# Altium footprint library Mechanical.PcbLib: 50 footprints (part 1 of 4)
Each footprint in its own frame and in the unit in brackets; x right, y up, seen from the top. Pads: shape width x height; smd on the part's side, far side on the other; paste and mask are expansions set on the pad; w line width, h text height; cw(c..) or ccw(c..) is an arc to the next point about the centre after c.
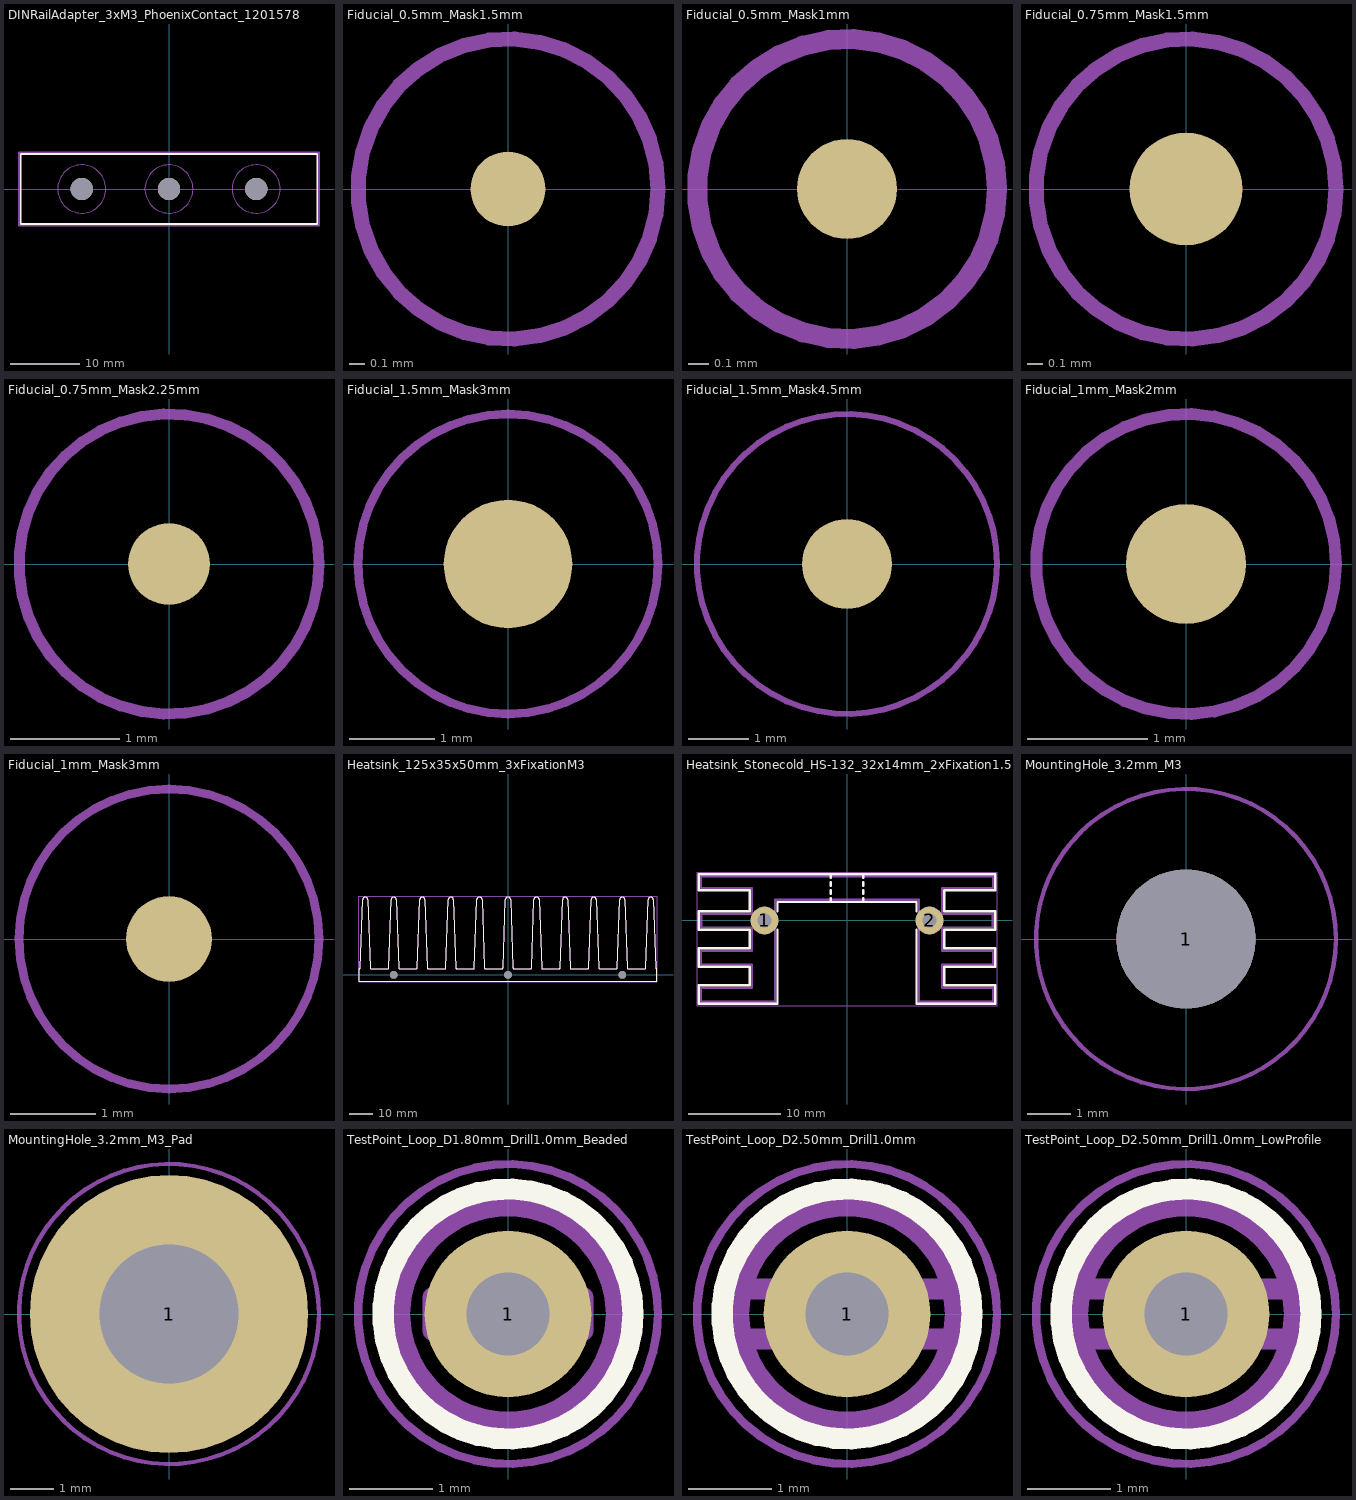
[diagram p0: the footprints below, top view; thin cyan lines are the x and y axes]

## DINRailAdapter_3xM3_PhoenixContact_1201578 [mm] "DIN Rail adapters for M3 screws length: 42.6 mm, width: 10 mm, height: 19 mm, color: gray"
pads (3):
  round 3.2 hole 3.2 unplated mask+0: ""(-12.5,0) ""(0,0) ""(12.5,0)
Top Overlay:
  lines w0.254: -21.25,-5 21.25,-5 21.25,5 -21.25,5 -21.25,-5
Bottom Overlay:
  circle w0.254: c0,0 r2
  circle w0.254: c-12.5,0 r2
  circle w0.254: c12.5,0 r2
Top Courtyard:
  lines w0.254: -21.5,-5.25 21.5,-5.25 21.5,5.25 -21.5,5.25 -21.5,-5.25
Bottom Courtyard:
  circle w0.1: c12.5,0 r3.45
  circle w0.1: c-12.5,0 r3.45
  circle w0.1: c0,0 r3.45
Top Designator:
  text ".Designator" at -7.63,-0.521 h1.52
3D body "UNK_Phoenix_Contact_1201578_eec.STEP": height 19.01, standoff 0.01, extent -21.5,-5 21.184,5

## Fiducial_0.5mm_Mask1.5mm [mm] "Circular Fiducial, 0.5mm bare copper, 1.5mm soldermask opening"
pads (1):
  round 0.5 smd mask+1.5: ""(0,0)
Top Courtyard:
  circle w0.1: c0,0 r1

## Fiducial_0.5mm_Mask1mm [mm] "Circular Fiducial, 0.5mm bare copper, 1mm soldermask opening (Level C)"
pads (1):
  round 0.5 smd mask+1: ""(0,0)
Top Courtyard:
  circle w0.1: c0,0 r0.75

## Fiducial_0.75mm_Mask1.5mm [mm] "Circular Fiducial, 0.75mm bare copper, 1.5mm soldermask opening (Level B)"
pads (1):
  round 0.75 smd mask+1.5: ""(0,0)
Top Courtyard:
  circle w0.1: c0,0 r1

## Fiducial_0.75mm_Mask2.25mm [mm] "Circular Fiducial, 0.75mm bare copper, 2.25mm soldermask opening"
pads (1):
  round 0.75 smd mask+2.25: ""(0,0)
Top Courtyard:
  circle w0.1: c0,0 r1.38

## Fiducial_1.5mm_Mask3mm [mm] "Circular Fiducial, 1.5mm bare copper, 3mm soldermask opening"
pads (1):
  round 1.5 smd mask+3: ""(0,0)
Top Courtyard:
  circle w0.1: c0,0 r1.75

## Fiducial_1.5mm_Mask4.5mm [mm] "Circular Fiducial, 1.5mm bare copper, 4.5mm soldermask opening"
pads (1):
  round 1.5 smd mask+4.5: ""(0,0)
Top Courtyard:
  circle w0.1: c0,0 r2.5

## Fiducial_1mm_Mask2mm [mm] "Circular Fiducial, 1mm bare copper, 2mm soldermask opening (Level A)"
pads (1):
  round 1 smd mask+2: ""(0,0)
Top Courtyard:
  circle w0.1: c0,0 r1.25

## Fiducial_1mm_Mask3mm [mm] "Circular Fiducial, 1mm bare copper, 3mm soldermask opening (recommended)"
pads (1):
  round 1 smd mask+3: ""(0,0)
Top Courtyard:
  circle w0.1: c0,0 r1.75

## Heatsink_125x35x50mm_3xFixationM3 [mm] "Heatsink, 125x35x50mm, 3 fixation holes 3.2mm"
pads (3):
  round 3.2 hole 3.2 unplated mask+0: ""(-48,0) ""(0,0) ""(48,0)
Top Overlay:
  lines w0.254: -62.6,2.57 -62.6,-2.65 62.6,-2.65 62.6,2.57 ; -62.58,2.57 ccw(c-62.565,3.035) -62.1,3.02 -61.09,31.62 ; -61.09,31.58 cw(c-60,31.6) -58.91,31.58 ; -58.91,31.62 -57.9,3.02 ccw(c-57.435,3.035) -57.42,2.57 -50.58,2.57 ccw(c-50.565,3.035) -50.1,3.02 -49.09,31.62 ; -49.09,31.58 cw(c-48,31.6) -46.91,31.58 ; -46.91,31.62 -45.9,3.02 ccw(c-45.435,3.035) -45.42,2.57 -38.58,2.57 ccw(c-38.565,3.035) -38.1,3.02 -37.09,31.62 ; -37.09,31.58 cw(c-36,31.6) -34.91,31.58 ; -34.91,31.62 -33.9,3.02 ccw(c-33.435,3.035) -33.42,2.57 -26.58,2.57 ccw(c-26.565,3.035) -26.1,3.02 -25.09,31.62 ; -25.09,31.58 cw(c-24,31.6) -22.91,31.58 ; -22.91,31.62 -21.9,3.02 ccw(c-21.435,3.035) -21.42,2.57 -14.58,2.57 ccw(c-14.565,3.035) -14.1,3.02 -13.09,31.62 ; -13.09,31.58 cw(c-12,31.6) -10.91,31.58 ; -10.91,31.62 -9.9,3.02 ccw(c-9.435,3.035) -9.42,2.57 -2.58,2.57 ccw(c-2.565,3.035) -2.1,3.02 -1.09,31.62 ; -1.09,31.58 cw(c0,31.6) 1.09,31.58 ; 1.09,31.62 2.1,3.02 ccw(c2.565,3.035) 2.58,2.57 9.42,2.57 ccw(c9.435,3.035) 9.9,3.02 10.91,31.62 ; 10.91,31.58 cw(c12,31.6) 13.09,31.58 ; 13.09,31.62 14.1,3.02 ccw(c14.565,3.035) 14.58,2.57 21.42,2.57 ccw(c21.435,3.035) 21.9,3.02 22.91,31.62 ; 22.91,31.58 cw(c24,31.6) 25.09,31.58 ; 25.09,31.62 26.1,3.02 ccw(c26.565,3.035) 26.58,2.57 33.42,2.57 ccw(c33.435,3.035) 33.9,3.02 34.91,31.62 ; 34.91,31.58 cw(c36,31.6) 37.09,31.58 ; 37.09,31.62 38.1,3.02 ccw(c38.565,3.035) 38.58,2.57 45.42,2.57 ccw(c45.435,3.035) 45.9,3.02 46.91,31.62 ; 46.91,31.58 cw(c48,31.6) 49.09,31.58 ; 49.09,31.62 50.1,3.02 ccw(c50.565,3.035) 50.58,2.57 57.42,2.57 ccw(c57.435,3.035) 57.9,3.02 58.91,31.62 ; 58.91,31.58 cw(c60,31.6) 61.09,31.58 ; 61.09,31.62 62.1,3.02 ccw(c62.565,3.035) 62.58,2.57
Top Assembly:
  lines w0.254: -62.6,2.57 -62.6,-2.65 62.6,-2.65 62.6,2.57 ; -62.58,2.57 ccw(c-62.565,3.035) -62.1,3.02 -61.09,31.62 ; -61.09,31.58 cw(c-60,31.6) -58.91,31.58 ; -58.91,31.62 -57.9,3.02 ccw(c-57.435,3.035) -57.42,2.57 -50.58,2.57 ccw(c-50.565,3.035) -50.1,3.02 -49.09,31.62 ; -49.09,31.58 cw(c-48,31.6) -46.91,31.58 ; -46.91,31.62 -45.9,3.02 ccw(c-45.435,3.035) -45.42,2.57 -38.58,2.57 ccw(c-38.565,3.035) -38.1,3.02 -37.09,31.62 ; -37.09,31.58 cw(c-36,31.6) -34.91,31.58 ; -34.91,31.62 -33.9,3.02 ccw(c-33.435,3.035) -33.42,2.57 -26.58,2.57 ccw(c-26.565,3.035) -26.1,3.02 -25.09,31.62 ; -25.09,31.58 cw(c-24,31.6) -22.91,31.58 ; -22.91,31.62 -21.9,3.02 ccw(c-21.435,3.035) -21.42,2.57 -14.58,2.57 ccw(c-14.565,3.035) -14.1,3.02 -13.09,31.62 ; -13.09,31.58 cw(c-12,31.6) -10.91,31.58 ; -10.91,31.62 -9.9,3.02 ccw(c-9.435,3.035) -9.42,2.57 -2.58,2.57 ccw(c-2.565,3.035) -2.1,3.02 -1.09,31.62 ; -1.09,31.58 cw(c0,31.6) 1.09,31.58 ; 1.09,31.62 2.1,3.02 ccw(c2.565,3.035) 2.58,2.57 9.42,2.57 ccw(c9.435,3.035) 9.9,3.02 10.91,31.62 ; 10.91,31.58 cw(c12,31.6) 13.09,31.58 ; 13.09,31.62 14.1,3.02 ccw(c14.565,3.035) 14.58,2.57 21.42,2.57 ccw(c21.435,3.035) 21.9,3.02 22.91,31.62 ; 22.91,31.58 cw(c24,31.6) 25.09,31.58 ; 25.09,31.62 26.1,3.02 ccw(c26.565,3.035) 26.58,2.57 33.42,2.57 ccw(c33.435,3.035) 33.9,3.02 34.91,31.62 ; 34.91,31.58 cw(c36,31.6) 37.09,31.58 ; 37.09,31.62 38.1,3.02 ccw(c38.565,3.035) 38.58,2.57 45.42,2.57 ccw(c45.435,3.035) 45.9,3.02 46.91,31.62 ; 46.91,31.58 cw(c48,31.6) 49.09,31.58 ; 49.09,31.62 50.1,3.02 ccw(c50.565,3.035) 50.58,2.57 57.42,2.57 ccw(c57.435,3.035) 57.9,3.02 58.91,31.62 ; 58.91,31.58 cw(c60,31.6) 61.09,31.58 ; 61.09,31.62 62.1,3.02 ccw(c62.565,3.035) 62.58,2.57
Top Courtyard:
  lines w0.1: -62.75,-2.79 -62.75,32.98 62.75,32.98 62.75,-2.79 -62.75,-2.79
Top Designator:
  text ".Designator" at -7.63,-0.521 h1.52
3D body "Heatsink_125x35x50mm_3xFixationM3.step": height 35.01, standoff 0.01, extent -62.5,-2.54 62.249,32.446

## Heatsink_Stonecold_HS-132_32x14mm_2xFixation1.5mm [mm] "Heatsink, StoneCold HS"
pads (2):
  round 3 hole 1.5 unplated mask+0: 1(-8.9,0) 2(8.9,0)
Top Overlay:
  lines w0.254: -7.5,-1 -7.5,-9 -16,-9 -16,-7 -10.5,-7 -10.5,-5 -16,-5 -16,-3 -10.5,-3 -10.5,-1 -16,-1 -16,1 -10.5,1 -10.5,3.25 -16,3.25 -16,5 16,5 16,3.25 10.5,3.25 10.5,1 16,1 16,-1 10.5,-1 10.5,-3 16,-3 16,-5 10.5,-5 10.5,-7 16,-7 16,-9 7.5,-9 7.5,-1 ; -7.5,1 -7.5,2 7.5,2 7.5,1 ; -1.75,2 -1.75,2.4 ; -1.75,2.849 -1.75,3.249 ; -1.75,3.758 -1.75,4.158 ; -1.75,4.6 -1.75,5 ; 1.75,2 1.75,2.4 ; 1.75,2.849 1.75,3.249 ; 1.75,3.758 1.75,4.158 ; 1.75,4.6 1.75,5
Top Assembly:
  lines w0.254: -15.75,-8.75 -7.75,-8.75 -7.75,2.25 7.725,2.25 7.725,-8.75 15.75,-8.75 15.75,-7.25 10.25,-7.25 10.25,-4.75 15.75,-4.75 15.75,-3.25 10.25,-3.25 10.25,-0.75 15.723,-0.75 15.723,0.741 10.25,0.741 10.25,3.5 15.75,3.5 15.75,4.75 -15.75,4.75 -15.75,3.5 -10.25,3.5 -10.25,0.741 -15.723,0.741 -15.723,-0.75 -10.25,-0.75 -10.25,-3.25 -15.75,-3.25 -15.75,-4.75 -10.25,-4.75 -10.25,-7.25 -15.75,-7.25 -15.75,-8.75
Top Courtyard:
  lines w0.1: -16.183,-9.178 16.182,-9.178 16.182,5.181 -16.183,5.181 -16.183,-9.178
Top Designator:
  text ".Designator" at -7.63,-0.521 h1.52
3D body "Heatsink_Stonecold_HS-132_32x14mm_2xFixation1.5mm.step": height 25.41, standoff -2.99, extent -16,-9 16,5

## MountingHole_3.2mm_M3 [mm] "Mounting Hole 3.2mm, no annular, M3"
pads (1):
  round 3.2 hole 3.2 unplated mask+0: 1(0,0)
Top Courtyard:
  circle w0.1: c0,0 r3.45

## MountingHole_3.2mm_M3_Pad [mm] "Mounting Hole 3.2mm, M3"
pads (1):
  round 6.4 hole 3.2 mask+0: 1(0,0)
Top Courtyard:
  circle w0.1: c0,0 r3.45

## TestPoint_Loop_D1.80mm_Drill1.0mm_Beaded [mm] "wire loop with bead as test point, loop diameter 1.8mm, hole diameter 1.0mm"
pads (1):
  round 2 hole 1: 1(0,0)
Top Overlay:
  circle w0.254: c0,0 r1.5
Top Assembly:
  circle w0.254: c0,0 r1.3
Top Component Outline:
  lines w0.25: -0.9,-0.2 -0.9,0.2 0.9,0.2 0.9,-0.2 -0.9,-0.2
Top Courtyard:
  circle w0.1: c0,0 r1.8
Top Designator:
  text ".Designator" at -7.63,-0.521 h1.52
3D body "TestPoint_Loop_D1.80mm_Drill1.0mm_Beaded.step": height 4.88, standoff -2.99, extent -1.26,-1.267 1.27,1.267

## TestPoint_Loop_D2.50mm_Drill1.0mm [mm] "wire loop as test point, loop diameter 2.5mm, hole diameter 1.0mm"
pads (1):
  round 2 hole 1: 1(0,0)
Top Overlay:
  circle w0.254: c0,0 r1.5
Top Assembly:
  circle w0.254: c0,0 r1.3
Top Component Outline:
  lines w0.25: -1.3,-0.3 1.3,-0.3 1.3,0.3 -1.3,0.3 -1.3,-0.3
Top Courtyard:
  circle w0.1: c0,0 r1.8
Top Designator:
  text ".Designator" at -7.63,-0.521 h1.52
3D body "TestPoint_Loop_D2.50mm_Drill1.0mm.step": height 6.15, standoff -3, extent -1.249,-0.25 1.248,0.25

## TestPoint_Loop_D2.50mm_Drill1.0mm_LowProfile [mm] "low profile wire loop as test point, loop diameter 2.5mm, hole diameter 1.0mm"
pads (1):
  round 2 hole 1: 1(0,0)
Top Overlay:
  circle w0.254: c0,0 r1.5
Top Assembly:
  circle w0.254: c0,0 r1.3
Top Component Outline:
  lines w0.25: -1.3,-0.3 1.3,-0.3 1.3,0.3 -1.3,0.3 -1.3,-0.3
Top Courtyard:
  circle w0.1: c0,0 r1.8
Top Designator:
  text ".Designator" at -7.63,-0.521 h1.52
3D body "TestPoint_Loop_D2.50mm_Drill1.0mm_LowProfile.step": height 2.35, standoff -3, extent -1.249,-0.25 1.248,0.25